# Altium schematic symbol library InterfaceConn.SchLib: 3 symbols
Pins are listed as number, name and electrical type; pins without a type are passive.

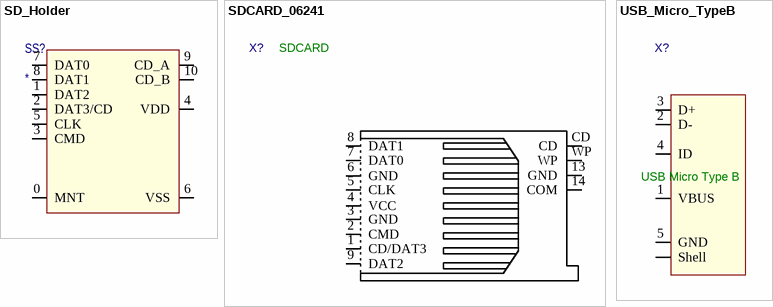
[diagram p0: symbols SD_Holder to USB_Micro_TypeB]

## SD_Holder
designator SS?
Model: DM3D-SF; Manufacturer: *; HelpURL: *; Package: *; Value: *
footprint DM3D-SF (microSD Card Connector)
pins: 0 MNT, 1 DAT2, 2 DAT3/CD, 3 CMD, 4 VDD, 5 CLK, 6 VSS, 7 DAT0, 8 DAT1, 9 CD_A, 10 CD_B

## SDCARD_06241
designator X?, comment SDCARD
Manufacturer Price: 0,65; Supplier: TI; Supplier 1: 4ucon; Supplier Part Number 1: 06241; Type: Connector
footprint SDCARD_06241
pins: 1 CD/DAT3, 2 CMD, 3 GND, 4 VCC, 5 CLK, 6 GND, 7 DAT0, 8 DAT1, 9 DAT2, 13 GND (power), 14 COM (power), CD (power), WP (power)

## USB_Micro_TypeB
designator X?, comment USB Micro Type B
Connector SMD USB Micro Type B middle mount; Manufacturer 1: Molex Inc; Manufacturer Part Number 1: Mini USB; SCDType: undef; Package / Case: SMD; Supplier 1: Digi-Key; Supplier Part Number 1: WM17142CT-ND
footprint USB_Micro
footprint 19815841 (microUSB TE Connectivity)
pins: 1 VBUS, 2 D-, 3 D+, 4 ID, 5 GND, SH Shell